# Altium footprint library PcbLib1.PcbLib: 2 footprints
Each footprint in its own frame and in the unit in brackets; x right, y up, seen from the top. Pads: shape width x height; smd on the part's side, far side on the other; paste and mask are expansions set on the pad; w line width, h text height; cw(c..) or ccw(c..) is an arc to the next point about the centre after c.
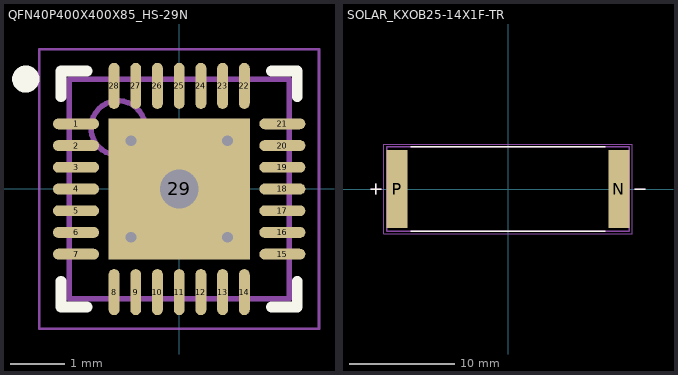
[diagram p0: the footprints below, top view; thin cyan lines are the x and y axes]

## QFN40P400X400X85_HS-29N [mm] "QFN, 28-Leads, Body 4.00x4.00mm, Pitch 0.40mm, Thermal Pad 2.60x2.60mm, IPC Medium Density"
height 0.85
pads (29):
  oval 0.85x0.2 smd: 1(-1.9,1.2) 2(-1.9,0.8) 3(-1.9,0.4) 4(-1.9,0) 5(-1.9,-0.4) 6(-1.9,-0.8) 7(-1.9,-1.2) 15(1.9,-1.2) 16(1.9,-0.8) 17(1.9,-0.4) 18(1.9,0) 19(1.9,0.4) 20(1.9,0.8) 21(1.9,1.2)
  oval 0.2x0.85 smd: 8(-1.2,-1.9) 9(-0.8,-1.9) 10(-0.4,-1.9) 11(0,-1.9) 12(0.4,-1.9) 13(0.8,-1.9) 14(1.2,-1.9) 22(1.2,1.9) 23(0.8,1.9) 24(0.4,1.9) 25(0,1.9) 26(-0.4,1.9) 27(-0.8,1.9) 28(-1.2,1.9)
  rect 2.6x2.6 smd: 29(0,0)
via 0.889,0.889 diameter 0.5 hole 0.2
via -0.889,0.889 diameter 0.5 hole 0.2
via -0.889,-0.889 diameter 0.5 hole 0.2
via 0.889,-0.889 diameter 0.5 hole 0.2
via 0,0 diameter 1.27 hole 0.711
Top Overlay:
  circle w0.25: c-2.825,2.025 r0.125
  lines w0.2: -2.175,-1.7 -2.175,-2.175 -1.7,-2.175 ; -2.175,1.7 -2.175,2.175 -1.7,2.175 ; 1.7,-2.175 2.175,-2.175 2.175,-1.7 ; 1.7,2.175 2.175,2.175 2.175,1.7
Mechanical 13:
  circle w0.1: c-1.125,1.125 r0.5
  lines w0.1: -2.025,-2.025 -2.025,2.025 2.025,2.025 2.025,-2.025 -2.025,-2.025
Mechanical 15:
  lines w0.05: -2.575,-2.575 -2.575,2.575 2.575,2.575 2.575,-2.575 -2.575,-2.575
  lines w0.1: -0.5,0 0.5,0 ; 0,-0.5 0,0.5
3D body "QFN40P400X400X85_HS-29N.step": height 0.85, standoff 0, extent -2.075,-2.075 2.075,2.075

## SOLAR_KXOB25-14X1F-TR [mm]
height 2.1
pads (2):
  rect 2x7.4 smd: N(10.5,0) P(-10.5,0)
Top Overlay:
  lines w0.127: -13,0 -12,0 ; -12.5,-0.5 -12.5,0.5 ; -9.185,-4 9.185,-4 ; -9.185,4 9.185,4 ; 12,0 13,0
Mechanical 13:
  lines w0.127: -13,0 -12,0 ; -12.5,-0.5 -12.5,0.5 ; 12,0 13,0 ; -11.5,-4 -11.5,4 11.5,4 11.5,-4 -11.5,-4
Mechanical 15:
  lines w0.05: -11.75,-4.25 -11.75,4.25 11.75,4.25 11.75,-4.25 -11.75,-4.25
3D body "step_temp.STEP": height 1.8, standoff 0, extent -11.5,-4 11.5,4